# EAGLE library part TMC6300 (library TMC6300)
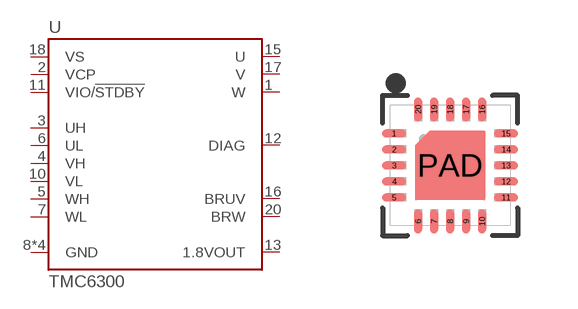
[diagram p0: symbol with the pads of QFN-20; footprint QFN-20]

Designator prefix U

## TMC6300 (PROD_ID: IC-17193)  [QFN-20]
1  W
2  VCP
3  UH
4  VH
5  WH
6  UL
7  WL
8  GND
9  GND
10  VL
11  VIO/!STDBY!
12  DIAG
13  1.8VOUT
14  GND
15  U
16  BRUV
17  V
18  VS
20  BRW
PAD  GND

## Footprint QFN-20 (pad centres in mm)
Footprint from: AN005r-IC_Package_PCB_Footprint_Guidelines_QFN20_3x3_rev1.00.pdf and https://www.renesas.com/eu/en/document/oth/tb389-pcb-land-pattern-design-and-surface-mount-guidelines-qfn-packages
smd 0.6 x 0.2: 1 -1.4,0.8; 2 -1.4,0.4; 3 -1.4,0; 4 -1.4,-0.4; 5 -1.4,-0.8; 11 1.4,-0.8; 12 1.4,-0.4; 13 1.4,0; 14 1.4,0.4; 15 1.4,0.8
smd 0.2 x 0.6: 6 -0.8,-1.4; 7 -0.4,-1.4; 8 0,-1.4; 9 0.4,-1.4; 10 0.8,-1.4; 16 0.8,1.4; 17 0.4,1.4; 18 0,1.4; 19 -0.4,1.4; 20 -0.8,1.4
smd 1.27 x 1.27: PAD 0,0